# Altium footprint library PCB1.PcbLib: 19 footprints (part 1 of 2)
Each footprint in its own frame and in the unit in brackets; x right, y up, seen from the top. Pads: shape width x height; smd on the part's side, far side on the other; paste and mask are expansions set on the pad; w line width, h text height; cw(c..) or ccw(c..) is an arc to the next point about the centre after c.
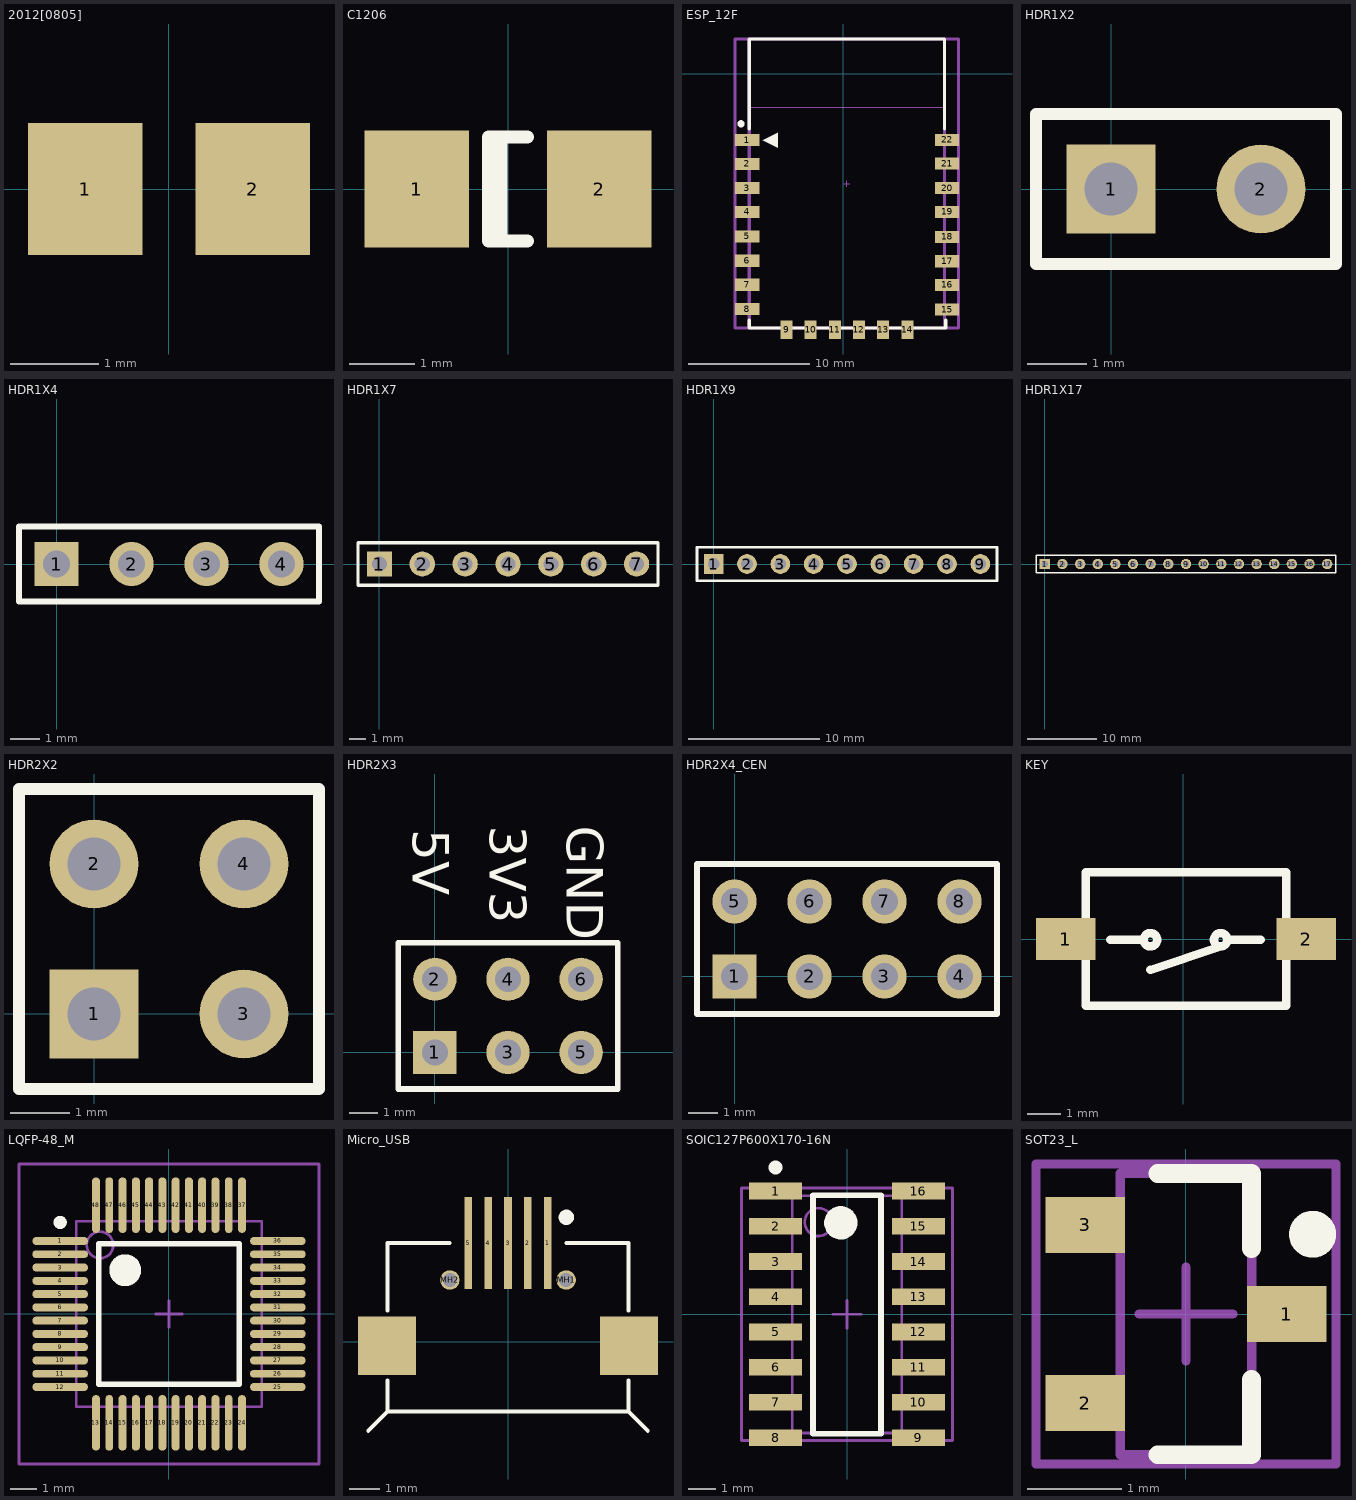
[diagram p0: the footprints below, top view; thin cyan lines are the x and y axes]

## 2012[0805] [mm] "Chip Resistor; Body 2.0 x 1.3 mm (LxW typ)"
height 2.54
pads (2):
  rect 1.3x1.5 smd: 1(-0.95,0) 2(0.95,0)

## C1206 [mm] "Chip Capacitor; Body 3.2 x 1.6 mm (LxW typ)"
height 1.35
pads (2):
  rect 1.6x1.8 smd: 1(-1.4,0) 2(1.4,0)
Top Overlay:
  lines w0.2: -0.11,-0.8 -0.11,0.8 ; 0.3,-0.8 -0.3,-0.8 -0.3,0.8 0.3,0.8

## ESP_12F [mm]
pads (22):
  rect 2x1 smd: 1(-7.963,-5.512) 2(-7.963,-7.482) 3(-7.963,-9.482) 4(-7.963,-11.452) 5(-7.963,-13.492) 6(-7.963,-15.502) 7(-7.963,-17.492) 8(-7.963,-19.502) 15(8.583,-19.542) 16(8.583,-17.502) 17(8.583,-15.542) 18(8.583,-13.522) 19(8.583,-11.462) 20(8.583,-9.482) 21(8.583,-7.462) 22(8.583,-5.482)
  rect 1x1.524 smd: 9(-4.712,-21.222) 10(-2.713,-21.222) 11(-0.714,-21.222) 12(1.285,-21.222) 13(3.284,-21.222) 14(5.304,-21.222)
Top Overlay:
  circle w0.3: c-8.484,-4.156 r0.15
  region: -6.693,-5.512 -5.423,-6.147 -5.423,-4.877
  lines w0.254: -7.805,-20.428 -7.805,-21.08 8.362,-21.08 ; -7.805,-4.595 -7.805,2.859 8.362,2.859 8.362,-4.596 ; 8.477,-21.08 8.477,-20.428
Mechanical 13:
  lines w0.051: -7.849,-2.784 8.407,-2.784 8.407,2.87 -7.849,2.87 -7.849,-2.784
  lines w0.254: -7.805,-21.08 -7.805,2.859 8.362,2.859 8.362,-21.08 -7.805,-21.08
  text "ANTENNA AREA" at -7.595,2.362 h0.25
  text "CUTOUT POLYGON" at -7.595,1.854 h0.25
Mechanical 15:
  lines w0.1: 0.024,-9.11 0.532,-9.11 ; 0.278,-9.364 0.278,-8.856
  lines w0.254: -8.992,-21.08 9.55,-21.08 9.55,2.859 -8.992,2.859 -8.992,-21.08

## HDR1X2 [mm] "Connector; Header; 2 Position"
height 1.2
pads (2):
  rect 1.5x1.5 hole 0.9: 1(0,0)
  round 1.5 hole 0.9: 2(2.54,0)
Top Overlay:
  lines w0.2: -1.27,-1.27 3.81,-1.27 3.81,1.27 -1.27,1.27 -1.27,-1.27

## HDR1X4 [mm] "Connector; Header; 4 Position"
pads (4):
  rect 1.5x1.5 hole 0.9: 1(0,0)
  round 1.5 hole 0.9: 2(2.54,0) 3(5.08,0) 4(7.62,0)
Top Overlay:
  lines w0.2: -1.27,-1.27 8.89,-1.27 8.89,1.27 -1.27,1.27 -1.27,-1.27

## HDR1X7 [mm] "Connector; Header; 7 Position"
pads (7):
  rect 1.5x1.5 hole 0.9: 1(0,0)
  round 1.5 hole 0.9: 2(2.54,0) 3(5.08,0) 4(7.62,0) 5(10.16,0) 6(12.7,0) 7(15.24,0)
Top Overlay:
  lines w0.2: -1.27,-1.27 16.51,-1.27 16.51,1.27 -1.27,1.27 -1.27,-1.27

## HDR1X9 [mm] "Connector; Header; 9 Position"
pads (9):
  rect 1.5x1.5 hole 0.9: 1(0,0)
  round 1.5 hole 0.9: 2(2.54,0) 3(5.08,0) 4(7.62,0) 5(10.16,0) 6(12.7,0) 7(15.24,0) 8(17.78,0) 9(20.32,0)
Top Overlay:
  lines w0.2: -1.27,-1.27 -1.27,1.27 21.59,1.27 21.59,-1.27 -1.27,-1.27

## HDR1X17 [mm] "Connector; Header; 17 Position"
pads (17):
  rect 1.5x1.5 hole 0.9: 1(0,0)
  round 1.5 hole 0.9: 2(2.54,0) 3(5.08,0) 4(7.62,0) 5(10.16,0) 6(12.7,0) 7(15.24,0) 8(17.78,0) 9(20.32,0) 10(22.86,0) 11(25.4,0) 12(27.94,0) 13(30.48,0) 14(33.02,0) 15(35.56,0) 16(38.1,0) 17(40.64,0)
Top Overlay:
  lines w0.2: -1.27,-1.27 41.91,-1.27 41.91,1.27 0.635,1.27 -1.27,1.27 -1.27,-1.27

## HDR2X2 [mm] "Connector; Header; 2x2 Position"
pads (4):
  rect 1.5x1.5 hole 0.9: 1(0,0)
  round 1.5 hole 0.9: 2(0,2.54) 3(2.54,0) 4(2.54,2.54)
Top Overlay:
  lines w0.2: -1.27,-1.27 3.81,-1.27 3.81,3.81 -1.27,3.81 -1.27,-1.27

## HDR2X3 [mm] "Connector; Header; 3x2 Position"
pads (6):
  rect 1.5x1.5 hole 0.9: 1(0,0)
  round 1.5 hole 0.9: 2(0,2.54) 3(2.54,0) 4(2.54,2.54) 5(5.08,0) 6(5.08,2.54)
Top Overlay:
  lines w0.2: 1.482,-1.27 6.35,-1.27 ; 6.35,-1.27 -1.27,-1.27 -1.27,3.81 6.35,3.81 6.35,-1.27
  text "5V" at -0.762,7.747 h1.27
  text "3V3" at 1.905,7.874 h1.27
  text "GND" at 4.572,7.874 h1.27

## HDR2X4_CEN [mm] "Connector; Header; 4x2 Position"
pads (8):
  rect 1.5x1.5 hole 0.9: 1(0,0)
  round 1.5 hole 0.9: 2(2.54,0) 3(5.08,0) 4(7.62,0) 5(0,2.54) 6(2.54,2.54) 7(5.08,2.54) 8(7.62,2.54)
Top Overlay:
  lines w0.2: -1.27,-1.27 -1.27,3.81 8.89,3.81 8.89,-1.27 -1.27,-1.27

## KEY [mil]
pads (2):
  rect 70x50 smd: 1(-138.46,0) 2(145,0)
Top Overlay:
  circle w10: c-38.65,-0.89 r7.87
  circle w10: c44.02,-0.89 r7.87
  lines w10: -85.9,-0.89 -46.53,-0.89 ; -38.65,-36.32 44.02,-8.76 ; 51.9,-0.89 91.27,-0.89 ; -114.84,-78.74 -114.84,78.74 121.38,78.74 121.38,-78.74 -114.84,-78.74

## LQFP-48_M [mm] "Thin QFP, 48-Leads, Body 7x7mm, Pitch 0.5mm, IPC Low Density"
height 1.6
pads (48):
  oval 2.1x0.3 smd: 1(-4.1,2.75) 2(-4.1,2.25) 3(-4.1,1.75) 4(-4.1,1.25) 5(-4.1,0.75) 6(-4.1,0.25) 7(-4.1,-0.25) 8(-4.1,-0.75) 9(-4.1,-1.25) 10(-4.1,-1.75) 11(-4.1,-2.25) 12(-4.1,-2.75) 25(4.1,-2.75) 26(4.1,-2.25) 27(4.1,-1.75) 28(4.1,-1.25) 29(4.1,-0.75) 30(4.1,-0.25) 31(4.1,0.25) 32(4.1,0.75) 33(4.1,1.25) 34(4.1,1.75) 35(4.1,2.25) 36(4.1,2.75)
  oval 0.3x2.1 smd: 13(-2.75,-4.1) 14(-2.25,-4.1) 15(-1.75,-4.1) 16(-1.25,-4.1) 17(-0.75,-4.1) 18(-0.25,-4.1) 19(0.25,-4.1) 20(0.75,-4.1) 21(1.25,-4.1) 22(1.75,-4.1) 23(2.25,-4.1) 24(2.75,-4.1) 37(2.75,4.1) 38(2.25,4.1) 39(1.75,4.1) 40(1.25,4.1) 41(0.75,4.1) 42(0.25,4.1) 43(-0.25,4.1) 44(-0.75,4.1) 45(-1.25,4.1) 46(-1.75,4.1) 47(-2.25,4.1) 48(-2.75,4.1)
Top Overlay:
  circle w0.6: c-1.65,1.65 r0.3
  circle w0.25: c-4.1,3.45 r0.125
  lines w0.2: -2.65,-2.65 2.65,-2.65 2.65,2.65 -2.65,2.65 -2.65,-2.65
Mechanical 13:
  circle w0.1: c-2.6,2.6 r0.5
  lines w0.1: -3.5,-3.5 3.5,-3.5 3.5,3.5 -3.5,3.5 -3.5,-3.5
Mechanical 15:
  lines w0.1: -0.5,0 0.5,0 ; 0,-0.5 0,0.5 ; -5.65,-5.65 5.65,-5.65 5.65,5.65 -5.65,5.65 -5.65,-5.65
3D body: height 1.6, standoff 0, extent -3.5,-3.5 3.5,3.5

## Micro_USB [mm] "5P Мщ?"
height 2.9
pads (9):
  rect 0.25x3 smd: 1(1.3,3.222) 2(0.65,3.222) 3(0,3.222) 4(-0.65,3.222) 5(-1.3,3.222)
  round 0.635 hole 0.457 unplated: MH1(1.9,2.014) MH2(-1.9,2.014)
  rect 1.9x1.9 smd: ""(-3.95,-0.136) ""(3.95,-0.136)
Top Overlay:
  circle w0.25: c1.905,4.062 r0.125
  lines w0.127: -4.567,-2.916 -3.937,-2.286 -3.937,-1.27 ; -3.937,1.016 -3.937,3.222 ; -3.9,-2.286 3.9,-2.286 ; -3.9,3.222 -1.905,3.222 ; 1.905,3.222 3.9,3.222 ; 3.937,-1.27 3.937,-2.286 4.567,-2.916 ; 3.937,1.016 3.937,3.222

## SOIC127P600X170-16N [mm] "SOIC, 16-Leads, Body 8.6x4.0mm (max), Pitch 1.27mm, IPC Medium Density"
height 1.7
pads (16):
  rect 1.9x0.6 smd: 1(-2.575,4.445) 2(-2.575,3.175) 3(-2.575,1.905) 4(-2.575,0.635) 5(-2.575,-0.635) 6(-2.575,-1.905) 7(-2.575,-3.175) 8(-2.575,-4.445) 9(2.575,-4.445) 10(2.575,-3.175) 11(2.575,-1.905) 12(2.575,-0.635) 13(2.575,0.635) 14(2.575,1.905) 15(2.575,3.175) 16(2.575,4.445)
Top Overlay:
  circle w0.25: c-2.575,5.295 r0.125
  circle w0.6: c-0.225,3.3 r0.3
  lines w0.2: -1.225,-4.3 -1.225,4.3 1.225,4.3 1.225,-4.3 -1.225,-4.3
Mechanical 13:
  circle w0.1: c-1.025,3.325 r0.5
  lines w0.1: -1.975,-4.275 -1.975,4.275 1.975,4.275 1.975,-4.275 -1.975,-4.275
Mechanical 15:
  lines w0.1: -0.5,0 0.5,0 ; 0,-0.5 0,0.5 ; -3.8,-4.55 -3.8,4.55 3.8,4.55 3.8,-4.55 -3.8,-4.55
3D body: height 1.7, standoff 0.16, extent -1.975,-4.275 1.975,4.275

## SOT23_L [mm] "SOT23, 3-Leads, Body 2.9x1.3mm, Pitch 0.95mm, Lead Span 2.3mm - Reverse Pinning, IPC High Density"
height 1.1
pads (3):
  rect 0.85x0.6 smd: 1(1.075,0) 2(-1.075,-0.95) 3(-1.075,0.95)
Top Overlay:
  circle w0.25: c1.35,0.85 r0.125
  lines w0.2: -0.3,-1.5 0.7,-1.5 0.7,-0.7 ; -0.3,1.5 0.7,1.5 0.7,0.7
Mechanical 13:
  lines w0.1: -0.7,-1.5 -0.7,1.5 0.7,1.5 0.7,-1.5 -0.7,-1.5
Mechanical 15:
  lines w0.1: -0.5,0 0.5,0 ; 0,-0.5 0,0.5 ; -1.6,-1.6 -1.6,1.6 1.6,1.6 1.6,-1.6 -1.6,-1.6
3D body: height 1.1, standoff 0, extent -0.7,-1.5 0.7,1.5